# EAGLE library part MP1584 (library dc-dc)
high frequency step-down switching regulator with an integrated internal high-side high voltage power MOSFET Datasheet <https://www.monolithicpower.com/pub/media/document/MP1584_r1.0.pdf>
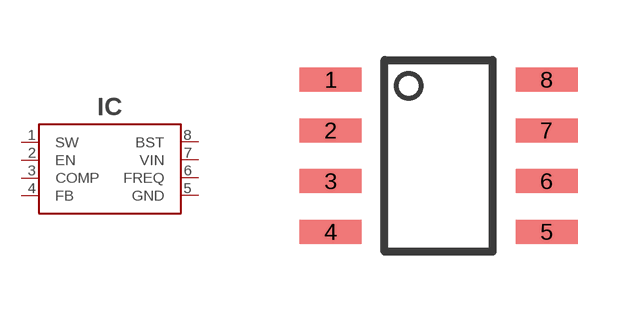
[diagram p15: symbol with the pads of SOIC8; footprint SOIC8]

Designator prefix IC

## MP1584 (LCSC#: C15051; MANF: monolithic power; MANF#: MP1584)  [SOIC8]
1  SW
2  EN
3  COMP
4  FB
5  GND
6  FREQ
7  VIN
8  BST

## Footprint SOIC8 (pad centres in mm)
https://www.ti.com/lit/ds/snvsaq5a/snvsaq5a.pdf?ts=1602424164509
smd 1.55 x 0.6: 1 -2.7,1.905; 2 -2.7,0.635; 3 -2.7,-0.635; 4 -2.7,-1.905; 5 2.7,-1.905; 6 2.7,-0.635; 7 2.7,0.635; 8 2.7,1.905